# EAGLE library part 1734510-1 (library neopixel_board)
Conn Mini USB Type B RCP 5 POS 1.6mm Solder RA Thru-Hole 5 Terminal 1 Port Tray https://www.digikey.com/product-detail/en/te-connectivity-amp-connectors/1734510-1/A107788-ND/4021669
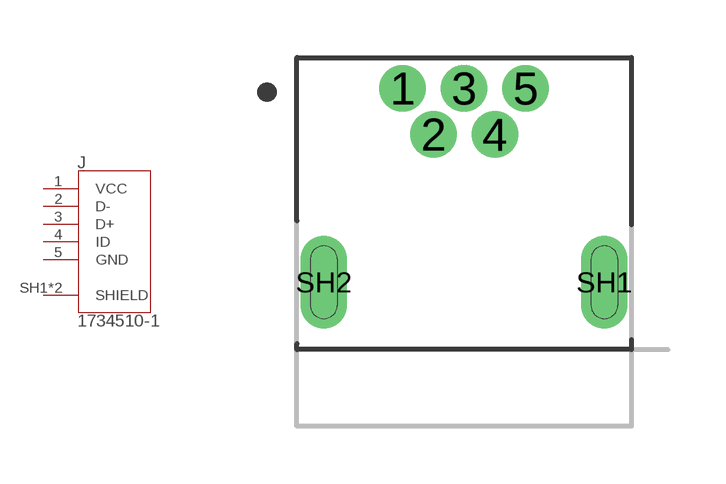
[diagram p3: symbol with the pads of TE_1734510-1; footprint TE_1734510-1]

Designator prefix J

## 1734510-1 (MANUFACTURER: TE Connectivity; PARTREV: B1; STANDARD: Manufacturer Recommendation)  [TE_1734510-1]
1  VCC  pas
2  D-  pas
3  D+  pas
4  ID  pas
5  GND  pas
SH1  SHIELD  pas
SH2  SHIELD  pas

## Footprint TE_1734510-1 (pad centres in mm)
https://www.digikey.com/product-detail/en/te-connectivity-amp-connectors/1734510-1/A107788-ND/4021669
drill 0.7 pad 1.2: 1 -1.6,5.05; 2 -0.8,3.85; 3 0,5.05; 4 0.8,3.85; 5 1.6,5.05
drill 0.7 long: SH1 3.65,0; SH2 -3.65,0